# EAGLE library part MN3101 (library mb3_integrated circuits)
BBD Clock Clock driver for the MN3007 and MN3005 BBD. MN3101: http://smallbear-electronics.mybigcommerce.com/ic-mn3101/
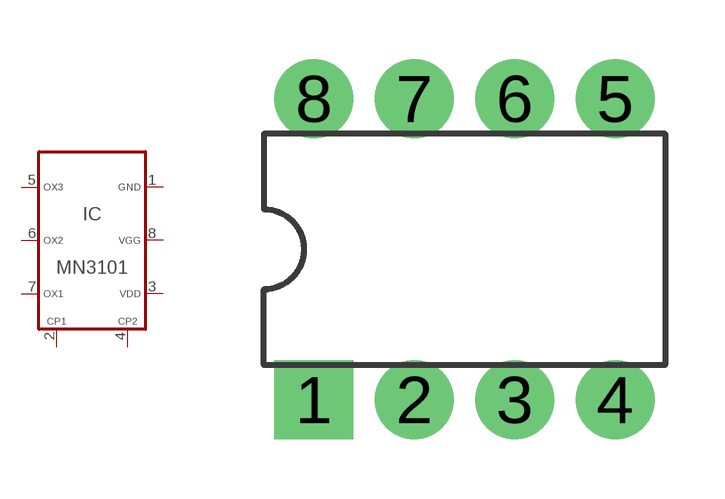
[diagram p7: symbol with the pads of DIP08; footprint DIP08]

Designator prefix IC

## MN3101  [DIP08]
1  P$1
2  P$2
3  P$3
4  P$4
5  P$5
6  P$6
7  P$7
8  P$8

## Footprint DIP08 (pad centres in mm)
Dual In Line Package
drill 1 pad 2 square: 1 -3.81,-3.81
drill 1 pad 2: 2 -1.27,-3.81; 3 1.27,-3.81; 4 3.81,-3.81; 5 3.81,3.81; 6 1.27,3.81; 7 -1.27,3.81; 8 -3.81,3.81